# Altium schematic symbol library Schematic_LIb.SchLib: 21 symbols
Pins are listed as number, name and electrical type; pins without a type are passive.

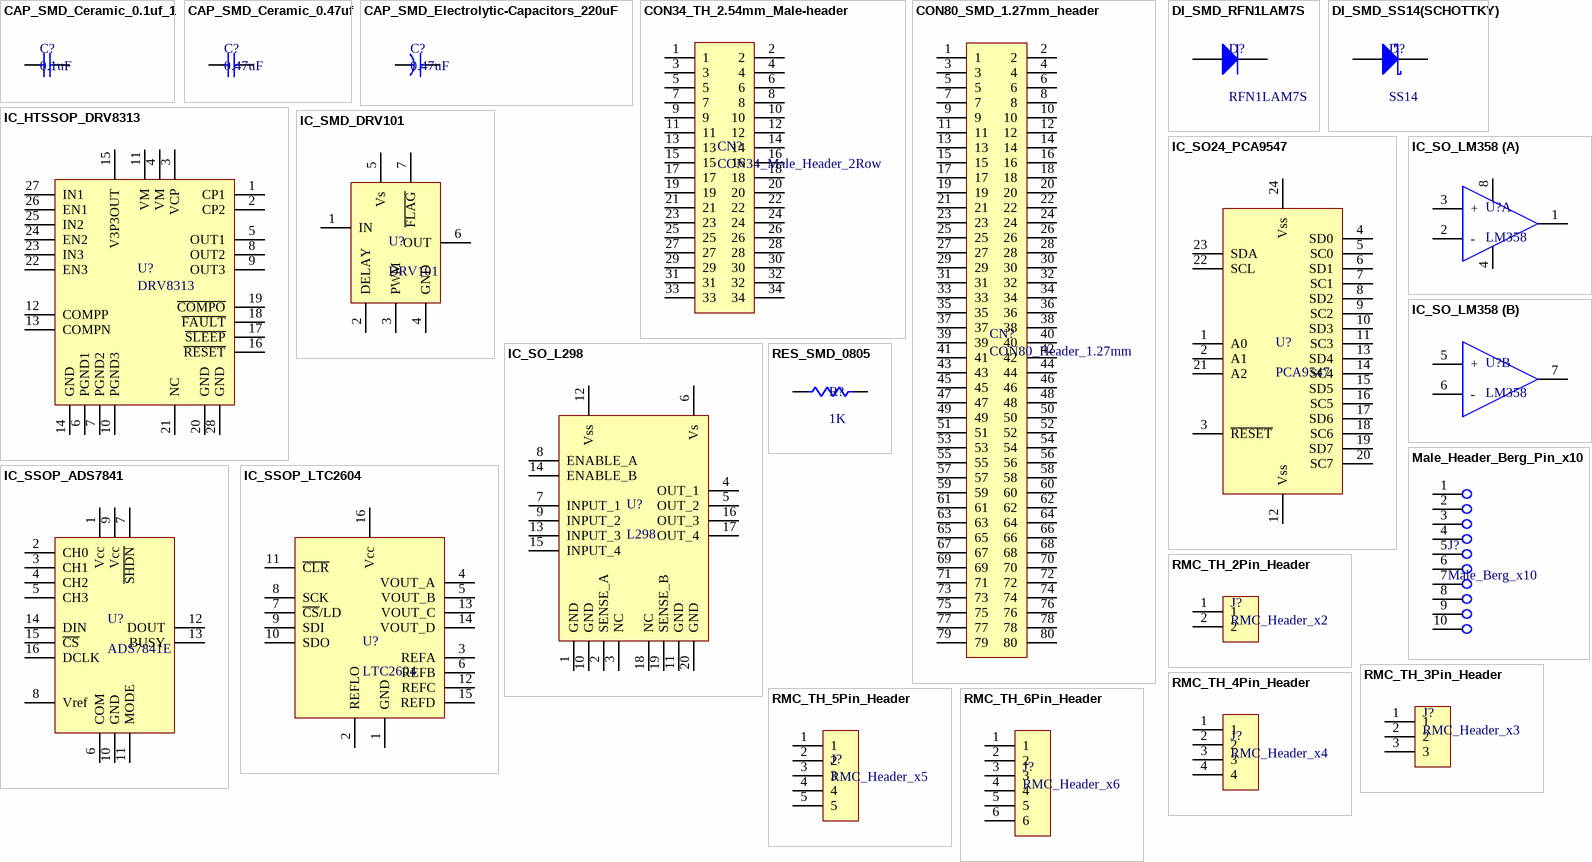
[diagram p0: symbols CAP_SMD_Ceramic_0.1uf_1 to RMC_TH_6Pin_Header]

## CAP_SMD_Ceramic_0.1uf_1
designator C?, comment 0.1uF
0.1µF ±20% 6.3V Ceramic Capacitor X5R 0201 (0603 Metric); Manufacturer: Vishay Vitramon; Manufacturer Part Number: VJ0201G104MXYCW1BC; Case / Package: SMD
footprint CAP_0603_SMD
pins: 1, 2

## CAP_SMD_Ceramic_0.47uf
designator C?, comment 0.47uF
0.47µF ±10% 6.3V Ceramic Capacitor X5R 0201 (0603 Metric); Case / Package: SMD; Manufacturer: *; Manufacturer Part Number: *
footprint CAP_0805_SMD
pins: 1, 2

## CAP_SMD_Electrolytic-Capacitors_220uF
designator C?, comment 0.47uF
220µF 35V Aluminum Electrolytic Capacitors Radial, Can - SMD  7000 Hrs @ 105°C; Manufacturer: Nichicon; Manufacturer Part Number: UCW1V221MNL1GS; Case / Package: SMD
footprint CAP_ALU_SMD_220uF (Aluminum Electrolytic Capacitor, Body 8.30x8.30x10.30mm, IPC Low Density)
pins: 1, 2

## CON34_TH_2.54mm_Male-header
designator CN?, comment CON34_Male_Header_2Row
Connector Header Through Hole 34 position 0.100" (2.54mm); Manufacturer: Amphenol ICC (FCI); Manufacturer Part Number: 67997-234HLF; Case / Package: Through Hole
footprint CON_2ROW_MALE_BERG_TH
pins: 1, 2, 3, 4, 5, 6, 7, 8, 9, 10, 11, 12, 13, 14, 15, 16, 17, 18, 19, 20, 21, 22, 23, 24, 25, 26, 27, 28, 29, 30, 31, 32, 33, 34

## CON80_SMD_1.27mm_header
designator CN?, comment CON80_Header_1.27mm
Case / Package: *; Manufacturer: *; Manufacturer Part Number: *
footprint CON_SMC_x80_SMD (Pitch_1.27mm_Male_Connector)
pins: 1, 2, 3, 4, 5, 6, 7, 8, 9, 10, 11, 12, 13, 14, 15, 16, 17, 18, 19, 20, 21, 22, 23, 24, 25, 26, 27, 28, 29, 30, 31, 32, 33, 34, 35, 36, 37, 38, 39, 40, 41, 42, 43, 44, 45, 46, 47, 48, 49, 50, 51, 52, 53, 54, 55, 56, 57, 58, 59, 60, 61, 62, 63, 64, 65, 66, 67, 68, 69, 70, 71, 72, 73, 74, 75, 76, 77, 78, 79, 80

## DI_SMD_RFN1LAM7S
designator D?, comment RFN1LAM7S
Diodes - General Purpose, Power, Switching 600V Vr 0.8A Io Fast Recovery Diode; Manufacturer: ROHM Semiconductor; Manufacturer Part Number: RFN1LAM7STR; Case / Package: SMD
simulation model DIODE (Diode)
signal-integrity model Diode
footprint RFN1LAM7S_SMD (Diodes - General Purpose, Power, Switching 600V Vr 0.8A Io Fast Recovery Diod)
pins: 1 A, 2 K

## DI_SMD_SS14(SCHOTTKY)
designator D?, comment SS14
Diode Schottky 40V 1A Surface Mount SMA (DO-214AC); Case / Package: Surface Mount; Manufacturer: *; Manufacturer Part Number: *
footprint DIODE_SS19_SMD (SODFL, 2-Leads, Body 2.73x5.20mm, IPC Low Density)
pins: 1 A, 2 K

## IC_HTSSOP_DRV8313
designator U?, comment DRV8313
Motor Driver Power MOSFET Parallel 28-HTSSOP; Manufacturer: *; Manufacturer Part Number: *; Case / Package: 28-HTSSOP
footprint DRV8313_TSOP
pins: 1 CP1, 2 CP2, 3 VCP, 4 VM, 5 OUT1, 6 PGND1, 7 PGND2, 8 OUT2, 9 OUT3, 10 PGND3, 11 VM, 12 COMPP, 13 COMPN, 14 GND, 15 V3P3OUT, 16 ~{RESET}, 17 ~{SLEEP}, 18 ~{FAULT}, 19 ~{COMPO}, 20 GND, 21 NC, 22 EN3, 23 IN3, 24 EN2, 25 IN2, 26 EN1, 27 IN1, 28 GND

## IC_SMD_DRV101
designator U?, comment DRV101
Power Switch/Driver 1:1 Bipolar 1.9A DDPAK/TO-263-7; Manufacturer: Texas Instruments; Manufacturer Part Number: DRV101FKTWT; Case / Package: Surface Mount
footprint DRV101_SMD (D2-PAK, 8-Pads, Body 7.80x8.57mm (max), IPC Medium Density)
pins: 1 IN, 2 DELAY, 3 PWM, 4 GND, 5 Vs, 6 OUT, 7 ~{FLAG}

## IC_SO24_PCA9547
designator U?, comment PCA9547
Translating Multiplexer Interface 24-TSSOP; Manufacturer: NXP USA Inc.; Manufacturer Part Number: PCA9547PW,118; Case / Package: TSSOP
footprint PCA9547_SO24 (SOIC, 24-Leads, Body 15.40x7.50mm, Pitch 1.27mm, IPC Low Density)
pins: 1 A0, 2 A1, 3 ~{RESET}, 4 SD0, 5 SC0, 6 SD1, 7 SC1, 8 SD2, 9 SC2, 10 SD3, 11 SC3, 12 Vss, 13 SD4, 14 SC4, 15 SD5, 16 SC5, 17 SD6, 18 SC6, 19 SD7, 20 SC7, 21 A2, 22 SCL, 23 SDA, 24 Vss

## IC_SO_L298
designator U?, comment L298
Half Bridge (4) Driver DC Motors, Relays, Solenoids, Stepper Motors Bipolar PowerSO-20; Manufacturer: STMicroelectronics; Manufacturer Part Number: L298P013TR; Case / Package: 20-SOIC
footprint L298N_SO20 (SOIC, 20-Leads, Body 15.90x11.00mm, Pitch 1.27mm, Thermal Pad 16.00x6.20mm, IPC Low Density)
pins: 1 GND, 2 SENSE_A, 3 NC, 4 OUT_1, 5 OUT_2, 6 Vs, 7 INPUT_1, 8 ENABLE_A, 9 INPUT_2, 10 GND, 11 GND, 12 Vss, 13 INPUT_3, 14 ENABLE_B, 15 INPUT_4, 16 OUT_3, 17 OUT_4, 18 NC, 19 SENSE_B, 20 GND

## IC_SO_LM358
designator U?, comment LM358
General Purpose Amplifier 2 Circuit  8-SOIC; Manufacturer: Texas Instruments; Manufacuturer Part Number: LM358DR; Case / Package: 8-SOIC
footprint LM358_SOIC8 (SOIC, 8-Leads, Body 4.90x3.90mm, Pitch 1.27mm, IPC Low Density)
part A pins: 1 OutA, 2 -, 3 +, 4 Vee, 8 Vcc
part B pins: 5 +, 6 -, 7 OutB

## IC_SSOP_ADS7841
designator U?, comment ADS7841E
12 Bit Analog to Digital Converter 4 Input 1 SAR 16-SSOP; Manufacturer: Texas Instruments; Manufacturer Part Number: ADS7841E/2K5; Case / Package: SSOP
footprint ADS7841E_SOP (SOP, 16-Leads, Body 4.90x3.90mm, Pitch 0.64mm, IPC Low Density)
pins: 1 Vcc, 2 CH0, 3 CH1, 4 CH2, 5 CH3, 6 COM, 7 ~{SHDN}, 8 Vref, 9 Vcc, 10 GND, 11 MODE, 12 DOUT, 13 BUSY, 14 DIN, 15 ~{CS}, 16 DCLK

## IC_SSOP_LTC2604
designator U?, comment LTC2604
IC DAC 16BIT V-OUT 16SSOP; Manufacturer: Analog Devices Inc.; Manufacuturer Part Number: LTC2604CGN#PBF; Case / Package: 16-SSOP
footprint LTC2604_SOP (SOP, 16-Leads, Body 4.89x3.90mm, Pitch 0.64mm, IPC Medium Density)
pins: 1 GND, 2 REFLO, 3 REFA, 4 VOUT_A, 5 VOUT_B, 6 REFB, 7 ~{CS}/LD, 8 SCK, 9 SDI, 10 SDO, 11 ~{CLR}, 12 REFC, 13 VOUT_C, 14 VOUT_D, 15 REFD, 16 Vcc

## Male_Header_Berg_Pin_x10
designator J?, comment Male_Berg_x10
Connector Header Through Hole 10 position 0.100" (2.54mm); Manufacturer: Sullins Connector Solutions; Manufacturer Part Number: PRPC010SAAN-RC; Case / Package: Through Hole
footprint CON_BERG_x10_TH (HEADER MALE, Pitch-2.54mm)
pins: 1, 2, 3, 4, 5, 6, 7, 8, 9, 10

## RES_SMD_0805
designator R?, comment 1K
±1% 0.125W, 1/8W Chip Resistor 0805 (2012 Metric) Moisture Resistant Thick Film; Case / Package: *; Manufacturer: *; Manufacuturer Part Number: *
footprint RES_0805_SMD
pins: 1, 2

## RMC_TH_2Pin_Header
designator J?, comment RMC_Header_x2
Connector Header Through Hole 2 position 0.098" (2.50mm); Manufacturer: JST Sales America Inc.; Manufacuturer Part Number: B2B-EH-A(LF)(SN); Case / Package: Through Hole
footprint CON_RMC_x2_TH (2.54mm.Pitch_2Pins)
pins: 1, 2

## RMC_TH_3Pin_Header
designator J?, comment RMC_Header_x3
Connector Header Through Hole 3 position 0.098" (2.50mm); Manufacturer: JST Sales America Inc.; Manufacuturer Part Number: B2B-EH-A(LF)(SN); Case / Package: Through Hole
footprint CON_RMC_x3_TH (2.54mm.Pitch_3Pins)
pins: 1, 2, 3

## RMC_TH_4Pin_Header
designator J?, comment RMC_Header_x4
Connector Header Through Hole 4 position 0.098" (2.50mm); Manufacturer: JST Sales America Inc.; Manufacuturer Part Number: B4B-EH-A(LF)(SN); Case / Package: Through Hole
footprint CON_RMC_x4_TH (2.54mm.Pitch_4Pins)
pins: 1, 2, 3, 4

## RMC_TH_5Pin_Header
designator J?, comment RMC_Header_x5
Connector Header Through Hole 5 position 0.098" (2.50mm); Manufacturer: JST Sales America Inc.; Manufacuturer Part Number: B5B-EH-A(LF)(SN); Case / Package: Through Hole
footprint CON_RMC_x5_TH (2.54mm.Pitch_Pins)
pins: 1, 2, 3, 4, 5

## RMC_TH_6Pin_Header
designator J?, comment RMC_Header_x6
Connector Header Through Hole 6 position 0.098" (2.50mm); Manufacturer: JST Sales America Inc.; Case / Package: Through Hole
footprint CON_RMC_x6_TH (2.54mm.Pitch_6Pins)
pins: 1, 2, 3, 4, 5, 6